# EAGLE library part ATTINY816 (library Microcontrollers)
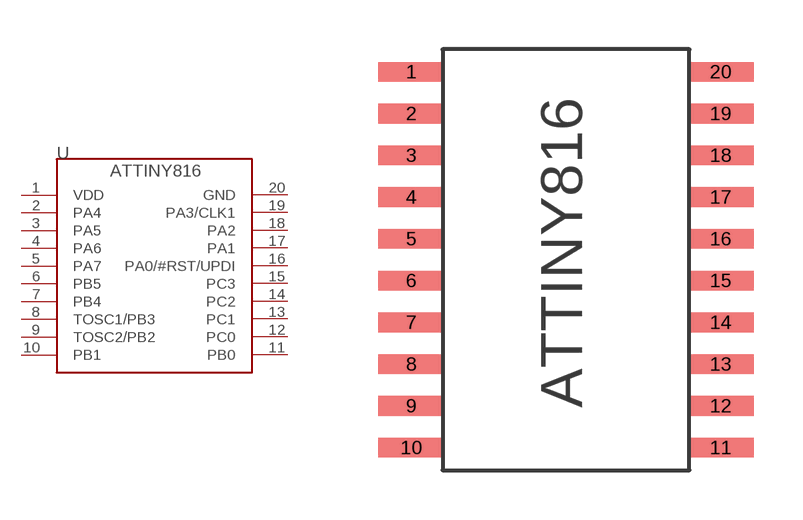
[diagram p1: symbol with the pads of SOIC-20; footprint SOIC-20]

Designator prefix U

## ATTINY816  [SOIC-20]
1  VDD
2  PA4
3  PA5
4  PA6
5  PA7
6  PB5
7  PB4
8  TOSC1/PB3
9  TOSC2/PB2
10  PB1
11  PB0
12  PC0
13  PC1
14  PC2
15  PC3
16  PA0/#RST/UPDI
17  PA1
18  PA2
19  PA3/CLK1
20  GND

## Footprint SOIC-20 (pad centres in mm)
smd 2 x 0.6: 1 -4.7,5.715; 2 -4.7,4.445; 3 -4.7,3.175; 4 -4.7,1.905; 5 -4.7,0.635; 6 -4.7,-0.635; 7 -4.7,-1.905; 8 -4.7,-3.175; 9 -4.7,-4.445; 10 -4.7,-5.715; 11 4.7,-5.715; 12 4.7,-4.445; 13 4.7,-3.175; 14 4.7,-1.905; 15 4.7,-0.635; 16 4.7,0.635; 17 4.7,1.905; 18 4.7,3.175; 19 4.7,4.445; 20 4.7,5.715